# Altium schematic symbol library AQW614.SchLib: 1 symbol
Pins are listed as number, name and electrical type; pins without a type are passive.

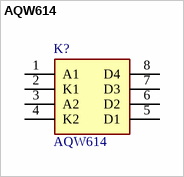
[diagram p0: symbol AQW614]

## AQW614
designator K?
Panasonic 0.1 A Solid State Relay, PCB Mount, MOSFET, 400 V Maximum Load; Geometry.Height: 4.1mm; Manufacturer_Name: Panasonic; Manufacturer_Part_Number: AQW614; Mouser Part Number: 769-AQW614; Mouser Price/Stock: https://www.mouser.co.uk/ProductDetail/Panasonic/AQW614?qs=sEN%2FkO1EG6aIbQazZO7uDw%3D%3D; Arrow Part Number: *; Arrow Price/Stock: *; Datasheet Link: https://industry.panasonic.com/ac/cdn/e/control/relay/photomos/catalog/semi_eng_gu1a1b_aqw61.pdf
footprint DIP762W47P254L978H410Q8N
pins: 1 A1, 2 K1, 3 A2, 4 K2, 5 D1, 6 D2, 7 D3, 8 D4